# EAGLE library part OCTAMEX_SPC01 (library Compass Modul - Octamex)
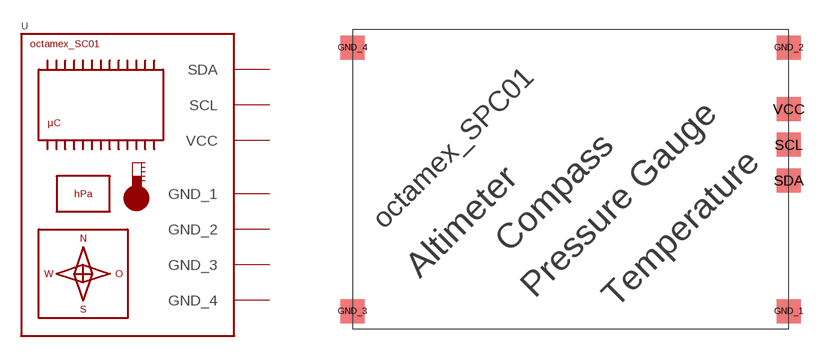
[diagram p0: symbol with the pads of SPC01_ALTIMETER; footprint SPC01_ALTIMETER]

Designator prefix -

## OCTAMEX_SPC01  [SPC01_ALTIMETER]
GND_1  GND_1  pwr
GND_2  GND_2  pwr
GND_3  GND_3  pwr
GND_4  GND_4  pwr
SCL  SCL  in
SDA  SDA
VCC  VCC  pwr

## Footprint SPC01_ALTIMETER (pad centres in mm)
smd 1.2 x 1.2: GND_1 11.53,-7.9; GND_2 11.53,5.4; GND_3 -10.47,-7.9; GND_4 -10.47,5.4; SCL 11.53,0.5; SDA 11.53,-1.3; VCC 11.53,2.3